# Altium integrated library ON Semi Programmable Unijunction Transistors (PUTs).IntLib: 12 symbols
Pins are listed as number, name and electrical type; pins without a type are passive.

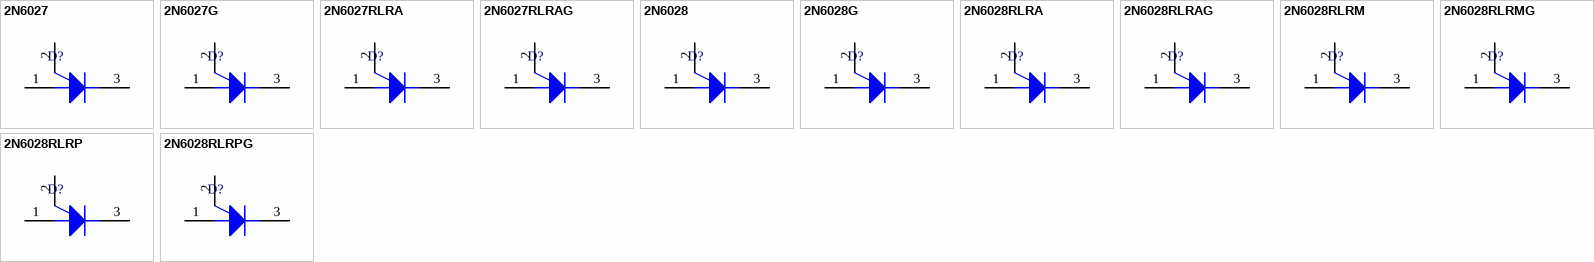
[diagram p0: symbols 2N6027 to 2N6028RLRPG]

## 2N6027
designator D?
Programmable Unijunction Transistor Trigger, 0.2 to 0.6 V, -50 to 100 degC, 3-Pin TO-92, Bulk Box; Manufacturer: On Semiconductor; PartNumber: 2N6027; VT Min (V): 0.2; DatasheetVersion: Rev. 6; PackageVersion: Rev. AM; PackageReference: TO-92-3-29-11_AM_SL; PackageDescription: 3-Pin Transistor Outline, Body 4.825 x 3.685 mm, Pitch 1.27 mm; Packing: Bulk Box; Mounting Technology: Through Hole; ComponentLink1Description: Manufacturer URL; ComponentLink1URL: http://www.onsemi.com/; ComponentLink2Description: Datasheet; ComponentLink2URL: http://www.onsemi.cn/pub_link/Collateral/2N6027-D.PDF; ComponentLink3Description: Package Specification; ComponentLink3URL: http://www.onsemi.cn/pub_link/Collateral/2N6426-D.PDF
footprint ONSC-TO-92-3-29-11 (TO, 3-Leads, Body Dia 4.7mm, Pitch 1.27mm)
pins: 1 A, 2 G, 3 K

## 2N6027G
designator D?
Programmable Unijunction Transistor Trigger, 0.2 to 0.6 V, -50 to 100 degC, 3-Pin TO-92, Pb-Free, Bulk Box; Manufacturer: On Semiconductor; PartNumber: 2N6027G; VT Min (V): 0.2; DatasheetVersion: Rev. 6; PackageVersion: Rev. AM; PackageReference: TO-92-3-29-11_AM_SL; PackageDescription: 3-Pin Transistor Outline, Body 4.825 x 3.685 mm, Pitch 1.27 mm; Supplier 1: Digi-Key; Supplier Part Number 1: 2N6027GOS-ND; Supplier 2: Farnell; Supplier Part Number 2: 1611196; Supplier 3: Newark; Supplier Part Number 3: 26K5303; Supplier 4: Mouser; Supplier Part Number 4: 863-2N6027G; Packing: Bulk Box; RoHS: Pb-Free; Mounting Technology: Through Hole; ComponentLink1Description: Manufacturer URL; ComponentLink1URL: http://www.onsemi.com/; ComponentLink2Description: Datasheet; ComponentLink2URL: http://www.onsemi.cn/pub_link/Collateral/2N6027-D.PDF; ComponentLink3Description: Package Specification; ComponentLink3URL: http://www.onsemi.cn/pub_link/Collateral/2N6426-D.PDF
footprint ONSC-TO-92-3-29-11 (TO, 3-Leads, Body Dia 4.7mm, Pitch 1.27mm)
pins: 1 A, 2 G, 3 K

## 2N6027RLRA
designator D?
Programmable Unijunction Transistor Trigger, 0.2 to 0.6 V, -50 to 100 degC, 3-Pin TO-92, Tape and Reel; Manufacturer: On Semiconductor; PartNumber: 2N6027RLRA; VT Min (V): 0.2; DatasheetVersion: Rev. 6; PackageVersion: Rev. AM; PackageReference: TO-92-3-29-11_AM_SL; PackageDescription: 3-Pin Transistor Outline, Body 4.825 x 3.685 mm, Pitch 1.27 mm; Supplier 1: Digi-Key; Supplier Part Number 1: 2N6027RLRAOSCT-ND; Packing: Tape and Reel; Mounting Technology: Through Hole; ComponentLink1Description: Manufacturer URL; ComponentLink1URL: http://www.onsemi.com/; ComponentLink2Description: Datasheet; ComponentLink2URL: http://www.onsemi.cn/pub_link/Collateral/2N6027-D.PDF; ComponentLink3Description: Package Specification; ComponentLink3URL: http://www.onsemi.cn/pub_link/Collateral/2N6426-D.PDF
footprint ONSC-TO-92-3-29-11 (TO, 3-Leads, Body Dia 4.7mm, Pitch 1.27mm)
pins: 1 A, 2 G, 3 K

## 2N6027RLRAG
designator D?
Programmable Unijunction Transistor Trigger, 0.2 to 0.6 V, -50 to 100 degC, 3-Pin TO-92, Pb-Free, Tape and Reel; Manufacturer: On Semiconductor; PartNumber: 2N6027RLRAG; VT Min (V): 0.2; DatasheetVersion: Rev. 6; PackageVersion: Rev. AM; PackageReference: TO-92-3-29-11_AM_SL; PackageDescription: 3-Pin Transistor Outline, Body 4.825 x 3.685 mm, Pitch 1.27 mm; Supplier 1: Digi-Key; Supplier Part Number 1: 2N6027RLRAGOSTR-ND; Supplier 2: Digi-Key; Supplier Part Number 2: 2N6027RLRAGOSCT-ND; Supplier 3: Farnell; Supplier Part Number 3: 9556591; Supplier 4: Newark; Supplier Part Number 4: 26K5304; Supplier 5: Newark; Supplier Part Number 5: 84K8843; Supplier 6: Newark; Supplier Part Number 6: 39K1524; Supplier 7: Mouser; Supplier Part Number 7: 863-2N6027RLRAG; Packing: Tape and Reel; RoHS: Pb-Free; Mounting Technology: Through Hole; ComponentLink1Description: Manufacturer URL; ComponentLink1URL: http://www.onsemi.com/; ComponentLink2Description: Datasheet; ComponentLink2URL: http://www.onsemi.cn/pub_link/Collateral/2N6027-D.PDF; ComponentLink3Description: Package Specification; ComponentLink3URL: http://www.onsemi.cn/pub_link/Collateral/2N6426-D.PDF
footprint ONSC-TO-92-3-29-11 (TO, 3-Leads, Body Dia 4.7mm, Pitch 1.27mm)
pins: 1 A, 2 G, 3 K

## 2N6028
designator D?
Programmable Unijunction Transistor Trigger, 0.2 to 0.6 V, -50 to 100 degC, 3-Pin TO-92, Bulk Box; Manufacturer: On Semiconductor; PartNumber: 2N6028; VT Max (V): 0.6; VT Min (V): 0.2; DatasheetVersion: Rev. 6; PackageVersion: Rev. AM; PackageReference: TO-92-3-29-11_AM_SL; PackageDescription: 3-Pin Transistor Outline, Body 4.825 x 3.685 mm, Pitch 1.27 mm; Packing: Bulk Box; Mounting Technology: Through Hole; ComponentLink1Description: Manufacturer URL; ComponentLink1URL: http://www.onsemi.com/; ComponentLink2Description: Datasheet; ComponentLink2URL: http://www.onsemi.cn/pub_link/Collateral/2N6027-D.PDF; ComponentLink3Description: Package Specification; ComponentLink3URL: http://www.onsemi.cn/pub_link/Collateral/2N6426-D.PDF
footprint ONSC-TO-92-3-29-11 (TO, 3-Leads, Body Dia 4.7mm, Pitch 1.27mm)
pins: 1 A, 2 G, 3 K

## 2N6028G
designator D?
Programmable Unijunction Transistor Trigger, 0.2 to 0.6 V, -50 to 100 degC, 3-Pin TO-92, Pb-Free, Bulk Box; Manufacturer: On Semiconductor; PartNumber: 2N6028G; VT Max (V): 0.6; VT Min (V): 0.2; DatasheetVersion: Rev. 6; PackageVersion: Rev. AM; PackageReference: TO-92-3-29-11_AM_SL; PackageDescription: 3-Pin Transistor Outline, Body 4.825 x 3.685 mm, Pitch 1.27 mm; Supplier 1: Digi-Key; Supplier Part Number 1: 2N6028GOS-ND; Supplier 2: Farnell; Supplier Part Number 2: 9555935; Supplier 3: Newark; Supplier Part Number 3: 45J2501; Supplier 4: Newark; Supplier Part Number 4: 39K1525; Supplier 5: Mouser; Supplier Part Number 5: 863-2N6028G; Packing: Bulk Box; RoHS: Pb-Free; Mounting Technology: Through Hole; ComponentLink1Description: Manufacturer URL; ComponentLink1URL: http://www.onsemi.com/; ComponentLink2Description: Datasheet; ComponentLink2URL: http://www.onsemi.cn/pub_link/Collateral/2N6027-D.PDF; ComponentLink3Description: Package Specification; ComponentLink3URL: http://www.onsemi.cn/pub_link/Collateral/2N6426-D.PDF
footprint ONSC-TO-92-3-29-11 (TO, 3-Leads, Body Dia 4.7mm, Pitch 1.27mm)
pins: 1 A, 2 G, 3 K

## 2N6028RLRA
designator D?
Programmable Unijunction Transistor Trigger, 0.2 to 0.6 V, -50 to 100 degC, 3-Pin TO-92, Tape and Reel; Manufacturer: On Semiconductor; PartNumber: 2N6028RLRA; VT Max (V): 0.6; VT Min (V): 0.2; DatasheetVersion: Rev. 6; PackageVersion: Rev. AM; PackageReference: TO-92-3-29-11_AM_SL; PackageDescription: 3-Pin Transistor Outline, Body 4.825 x 3.685 mm, Pitch 1.27 mm; Supplier 1: Digi-Key; Supplier Part Number 1: 2N6028RLRAOSCT-ND; Packing: Tape and Reel; Mounting Technology: Through Hole; ComponentLink1Description: Manufacturer URL; ComponentLink1URL: http://www.onsemi.com/; ComponentLink2Description: Datasheet; ComponentLink2URL: http://www.onsemi.cn/pub_link/Collateral/2N6027-D.PDF; ComponentLink3Description: Package Specification; ComponentLink3URL: http://www.onsemi.cn/pub_link/Collateral/2N6426-D.PDF
footprint ONSC-TO-92-3-29-11 (TO, 3-Leads, Body Dia 4.7mm, Pitch 1.27mm)
pins: 1 A, 2 G, 3 K

## 2N6028RLRAG
designator D?
Programmable Unijunction Transistor Trigger, 0.2 to 0.6 V, -50 to 100 degC, 3-Pin TO-92, Pb-Free, Tape and Reel; Manufacturer: On Semiconductor; PartNumber: 2N6028RLRAG; VT Max (V): 0.6; VT Min (V): 0.2; DatasheetVersion: Rev. 6; PackageVersion: Rev. AM; PackageReference: TO-92-3-29-11_AM_SL; PackageDescription: 3-Pin Transistor Outline, Body 4.825 x 3.685 mm, Pitch 1.27 mm; Supplier 1: Digi-Key; Supplier Part Number 1: 2N6028RLRAGOSTR-ND; Supplier 2: Digi-Key; Supplier Part Number 2: 2N6028RLRAGOSCT-ND; Supplier 3: Farnell; Supplier Part Number 3: 2369103; Supplier 4: Farnell; Supplier Part Number 4: 1891423; Supplier 5: Newark; Supplier Part Number 5: 64R8513; Supplier 6: Newark; Supplier Part Number 6: 26K5306; Supplier 7: Mouser; Supplier Part Number 7: 863-2N6028RLRAG; Packing: Tape and Reel; RoHS: Pb-Free; Mounting Technology: Through Hole; ComponentLink1Description: Manufacturer URL; ComponentLink1URL: http://www.onsemi.com/; ComponentLink2Description: Datasheet; ComponentLink2URL: http://www.onsemi.cn/pub_link/Collateral/2N6027-D.PDF; ComponentLink3Description: Package Specification; ComponentLink3URL: http://www.onsemi.cn/pub_link/Collateral/2N6426-D.PDF
footprint ONSC-TO-92-3-29-11 (TO, 3-Leads, Body Dia 4.7mm, Pitch 1.27mm)
pins: 1 A, 2 G, 3 K

## 2N6028RLRM
designator D?
Programmable Unijunction Transistor Trigger, 0.2 to 0.6 V, -50 to 100 degC, 3-Pin TO-92, Fan-Fold; Manufacturer: On Semiconductor; PartNumber: 2N6028RLRM; VT Max (V): 0.6; VT Min (V): 0.2; DatasheetVersion: Rev. 6; PackageVersion: Rev. AM; PackageReference: TO-92-3-29-11_AM_SL; PackageDescription: 3-Pin Transistor Outline, Body 4.825 x 3.685 mm, Pitch 1.27 mm; Packing: Fan-Fold; Mounting Technology: Through Hole; ComponentLink1Description: Manufacturer URL; ComponentLink1URL: http://www.onsemi.com/; ComponentLink2Description: Datasheet; ComponentLink2URL: http://www.onsemi.cn/pub_link/Collateral/2N6027-D.PDF; ComponentLink3Description: Package Specification; ComponentLink3URL: http://www.onsemi.cn/pub_link/Collateral/2N6426-D.PDF
footprint ONSC-TO-92-3-29-11 (TO, 3-Leads, Body Dia 4.7mm, Pitch 1.27mm)
pins: 1 A, 2 G, 3 K

## 2N6028RLRMG
designator D?
Programmable Unijunction Transistor Trigger, 0.2 to 0.6 V, -50 to 100 degC, 3-Pin TO-92, Pb-Free, Fan-Fold; Manufacturer: On Semiconductor; PartNumber: 2N6028RLRMG; VT Max (V): 0.6; VT Min (V): 0.2; DatasheetVersion: Rev. 6; PackageVersion: Rev. AM; PackageReference: TO-92-3-29-11_AM_SL; PackageDescription: 3-Pin Transistor Outline, Body 4.825 x 3.685 mm, Pitch 1.27 mm; Supplier 1: Digi-Key; Supplier Part Number 1: 2N6028RLRMGOSTR-ND; Supplier 2: Digi-Key; Supplier Part Number 2: 2N6028RLRMGOSCT-ND; Supplier 3: Mouser; Supplier Part Number 3: 863-2N6028RLRMG; Packing: Fan-Fold; RoHS: Pb-Free; Mounting Technology: Through Hole; ComponentLink1Description: Manufacturer URL; ComponentLink1URL: http://www.onsemi.com/; ComponentLink2Description: Datasheet; ComponentLink2URL: http://www.onsemi.cn/pub_link/Collateral/2N6027-D.PDF; ComponentLink3Description: Package Specification; ComponentLink3URL: http://www.onsemi.cn/pub_link/Collateral/2N6426-D.PDF
footprint ONSC-TO-92-3-29-11 (TO, 3-Leads, Body Dia 4.7mm, Pitch 1.27mm)
pins: 1 A, 2 G, 3 K

## 2N6028RLRP
designator D?
Programmable Unijunction Transistor Trigger, 0.2 to 0.6 V, -50 to 100 degC, 3-Pin TO-92, Fan-Fold; Manufacturer: On Semiconductor; PartNumber: 2N6028RLRP; VT Max (V): 0.6; VT Min (V): 0.2; DatasheetVersion: Rev. 6; PackageVersion: Rev. AM; PackageReference: TO-92-3-29-11_AM_SL; PackageDescription: 3-Pin Transistor Outline, Body 4.825 x 3.685 mm, Pitch 1.27 mm; Supplier 1: Digi-Key; Supplier Part Number 1: 2N6028RLRP-ND; Packing: Fan-Fold; Mounting Technology: Through Hole; ComponentLink1Description: Manufacturer URL; ComponentLink1URL: http://www.onsemi.com/; ComponentLink2Description: Datasheet; ComponentLink2URL: http://www.onsemi.cn/pub_link/Collateral/2N6027-D.PDF; ComponentLink3Description: Package Specification; ComponentLink3URL: http://www.onsemi.cn/pub_link/Collateral/2N6426-D.PDF
footprint ONSC-TO-92-3-29-11 (TO, 3-Leads, Body Dia 4.7mm, Pitch 1.27mm)
pins: 1 A, 2 G, 3 K

## 2N6028RLRPG
designator D?
Programmable Unijunction Transistor Trigger, 0.2 to 0.6 V, -50 to 100 degC, 3-Pin TO-92, Pb-Free, Fan-Fold; Manufacturer: On Semiconductor; PartNumber: 2N6028RLRPG; VT Max (V): 0.6; VT Min (V): 0.2; DatasheetVersion: Rev. 6; PackageVersion: Rev. AM; PackageReference: TO-92-3-29-11_AM_SL; PackageDescription: 3-Pin Transistor Outline, Body 4.825 x 3.685 mm, Pitch 1.27 mm; Supplier 1: Digi-Key; Supplier Part Number 1: 2N6028RLRPGOSTR-ND; Supplier 2: Digi-Key; Supplier Part Number 2: 2N6028RLRPGOSCT-ND; Supplier 3: Newark; Supplier Part Number 3: 42K3158; Supplier 4: Mouser; Supplier Part Number 4: 863-2N6028RLRPG; Packing: Fan-Fold; RoHS: Pb-Free; Mounting Technology: Through Hole; ComponentLink1Description: Manufacturer URL; ComponentLink1URL: http://www.onsemi.com/; ComponentLink2Description: Datasheet; ComponentLink2URL: http://www.onsemi.cn/pub_link/Collateral/2N6027-D.PDF; ComponentLink3Description: Package Specification; ComponentLink3URL: http://www.onsemi.cn/pub_link/Collateral/2N6426-D.PDF
footprint ONSC-TO-92-3-29-11 (TO, 3-Leads, Body Dia 4.7mm, Pitch 1.27mm)
pins: 1 A, 2 G, 3 K